# Altium footprint library Texas Instruments.PcbLib: 78 footprints (part 2 of 5)
Each footprint in its own frame and in the unit in brackets; x right, y up, seen from the top. Pads: shape width x height; smd on the part's side, far side on the other; paste and mask are expansions set on the pad; w line width, h text height; cw(c..) or ccw(c..) is an arc to the next point about the centre after c.
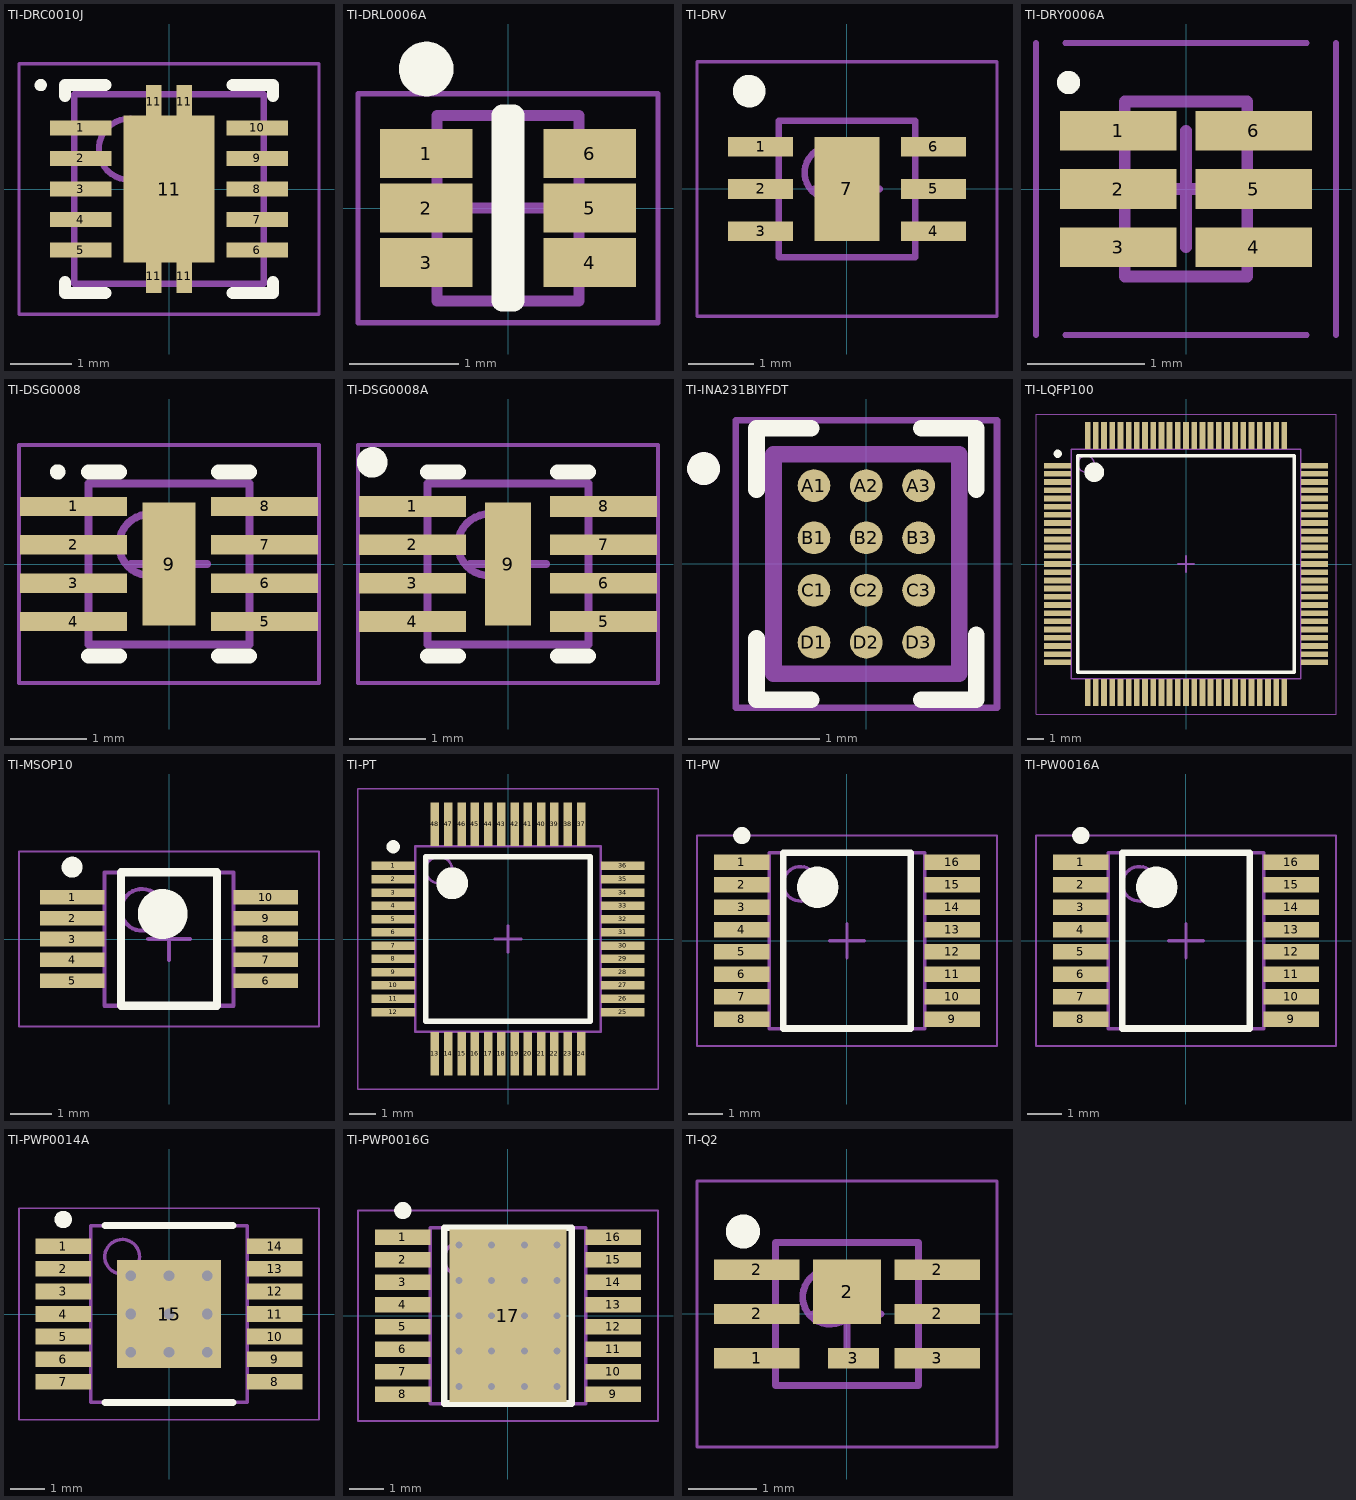
[diagram p1: the footprints below, top view; thin cyan lines are the x and y axes]

## TI-DRC0010J [mm] "SON, 10-Leads, Body 3.00x3.00mm, Pitch 0.50mm, Thermal Pad 2.40x1.49mm, IPC Low Density"
height 1
pads (15):
  rect 1x0.25 smd: 1(-1.445,1) 2(-1.445,0.5) 3(-1.445,0) 4(-1.445,-0.5) 5(-1.445,-1) 6(1.445,-1) 7(1.445,-0.5) 8(1.445,0) 9(1.445,0.5) 10(1.445,1)
  rect 0.25x0.55 smd: 11(-0.25,-1.425) 11(-0.25,1.425) 11(0.25,-1.425) 11(0.25,1.425)
  rect 1.49x2.4 smd: 11(0,0)
Top Overlay:
  circle w0.1: c-2.1,1.7 r0.05
  lines w0.2: -1.7,-1.525 -1.7,-1.7 -1.045,-1.7 ; -1.7,1.525 -1.7,1.7 -1.045,1.7 ; 1.045,-1.7 1.7,-1.7 1.7,-1.525 ; 1.045,1.7 1.7,1.7 1.7,1.525
Top Assembly:
  circle w0.1: c-0.65,0.65 r0.5
  lines w0.1: -1.55,-1.55 1.55,-1.55 1.55,1.55 -1.55,1.55 -1.55,-1.55
Top Courtyard:
  lines w0.05: -2.455,-2.05 2.455,-2.05 2.455,2.05 -2.455,2.05 -2.455,-2.05
  lines w0.1: -0.5,0 0.5,0 ; 0,-0.5 0,0.5
3D body "TI-DRC0010J.step": height 1, standoff 0, extent -1.551,-1.55 1.551,1.55

## TI-DRL0006A [mm] "SOTFL, 6-Leads, Body 1.60x1.60mm, Pitch 0.50mm, IPC Low Density"
height 0.6
pads (6):
  rect 0.85x0.45 smd: 1(-0.75,0.5) 2(-0.75,0) 3(-0.75,-0.5) 4(0.75,-0.5) 5(0.75,0) 6(0.75,0.5)
Top Overlay:
  circle w0.25: c-0.75,1.275 r0.125
  lines w0.2: -0.05,-0.85 0.05,-0.85 0.05,0.85 -0.05,0.85 -0.05,-0.85
Top Assembly:
  lines w0.1: -0.65,-0.85 -0.65,0.85 0.65,0.85 0.65,-0.85 -0.65,-0.85
Top Courtyard:
  lines w0.05: -1.375,-1.05 -1.375,1.05 1.375,1.05 1.375,-1.05 -1.375,-1.05
  lines w0.1: -0.5,0 0.5,0 ; 0,-0.5 0,0.5
3D body "TI-DRL0006A.step": height 0.6, standoff 0, extent -0.8,-0.848 0.8,0.848

## TI-DRV [mm] "QFN, 6-Leads, Body 2.00x2.00mm, Pitch 0.65mm, Thermal Pad 1.00x1.60mm, IPC Low Density"
height 0.8
pads (7):
  rect 1x0.3 smd: 1(-1.325,0.65) 2(-1.325,0) 3(-1.325,-0.65) 4(1.325,-0.65) 5(1.325,0) 6(1.325,0.65)
  rect 1x1.6 smd: 7(0,0)
Top Overlay:
  circle w0.25: c-1.5,1.5 r0.125
Assembly Top:
  circle w0.1: c-0.25,0.25 r0.4
  lines w0.1: -1.05,-1.05 -1.05,1.05 1.05,1.05 1.05,-1.05 -1.05,-1.05
Courtyard Top:
  lines w0.05: -2.3,-1.95 -2.3,1.95 2.3,1.95 2.3,-1.95 -2.3,-1.95
  lines w0.1: -0.5,0 0.5,0 ; 0,-0.5 0,0.5
3D body "TI-DRV.step": height 0.8, standoff 0, extent -1.051,-1.05 1.051,1.05

## TI-DRY0006A [mm] "PSON, 6-Leads, Body 1.45x1.00mm, Pitch 0.50mm, IPC Low Density"
height 0.6
pads (6):
  rect 1x0.34 smd: 1(-0.58,0.5) 2(-0.58,0) 3(-0.58,-0.5) 4(0.58,-0.5) 5(0.58,0) 6(0.58,0.5)
Top Overlay:
  circle w0.1: c-1.007,0.912 r0.05
Top Assembly:
  lines w0.1: -0.525,-0.75 -0.525,0.75 0.525,0.75 0.525,-0.75 -0.525,-0.75
Top Courtyard:
  lines w0.05: -1.285,-1.25 -1.285,1.25 ; -1.035,-1.25 1.035,-1.25 ; -1.035,1.25 1.035,1.25 ; 1.285,-1.25 1.285,1.25
  lines w0.1: -0.5,0 0.5,0 ; 0,-0.5 0,0.5
3D body "TI-DRY0006A.step": height 0.6, standoff 0, extent -0.526,-0.75 0.526,0.75

## TI-DSG0008 [mm] "SON, 8-Leads, Body 2.00x2.00mm, Pitch 0.50mm, Thermal Pad 1.60x0.69mm, IPC Low Density"
height 0.8
pads (9):
  rect 1.4x0.25 smd: 1(-1.245,0.75) 2(-1.245,0.25) 3(-1.245,-0.25) 4(-1.245,-0.75) 5(1.245,-0.75) 6(1.245,-0.25) 7(1.245,0.25) 8(1.245,0.75)
  rect 0.69x1.6 smd: 9(0,0)
Top Overlay:
  circle w0.1: c-1.45,1.2 r0.05
  lines w0.2: -1.05,-1.2 -0.645,-1.2 ; -1.05,1.2 -0.645,1.2 ; 0.645,-1.2 1.05,-1.2 ; 0.645,1.2 1.05,1.2
Assembly Top:
  circle w0.1: c-0.25,0.25 r0.4
  lines w0.1: -1.05,-1.05 -1.05,1.05 1.05,1.05 1.05,-1.05 -1.05,-1.05
Courtyard Top:
  lines w0.05: -1.955,-1.55 -1.955,1.55 1.955,1.55 1.955,-1.55 -1.955,-1.55
  lines w0.1: -0.5,0 0.5,0 ; 0,-0.5 0,0.5
3D body "TI-DSG0008.step": height 0.8, standoff 0, extent -1.051,-1.05 1.051,1.05

## TI-DSG0008A [mm] "SON, 8-Leads, Body 2.00x2.00mm, Pitch 0.50mm, Thermal Pad 1.60x0.69mm, IPC Low Density"
height 0.8
pads (9):
  rect 1.4x0.27 smd mask+0.051: 1(-1.245,0.75) 2(-1.245,0.25) 3(-1.245,-0.25) 4(-1.245,-0.75) 5(1.245,-0.75) 6(1.245,-0.25) 7(1.245,0.25) 8(1.245,0.75)
  rect 0.6x1.6 smd mask+0.051: 9(0,0)
Top Overlay:
  circle w0.2: c-1.769,1.325 r0.1
  lines w0.2: -1.05,-1.2 -0.645,-1.2 ; -1.05,1.2 -0.645,1.2 ; 0.645,-1.2 1.05,-1.2 ; 0.645,1.2 1.05,1.2
Assembly Top:
  circle w0.1: c-0.25,0.25 r0.4
  lines w0.1: -1.05,-1.05 1.05,-1.05 1.05,1.05 -1.05,1.05 -1.05,-1.05
Courtyard Top:
  lines w0.05: -1.955,-1.55 1.955,-1.55 1.955,1.55 -1.955,1.55 -1.955,-1.55
  lines w0.1: -0.5,0 0.5,0 ; 0,-0.5 0,0.5
3D body "TI-DSG0008.step": height 0.8, standoff 0, extent -1.051,-1.05 1.051,1.05

## TI-INA231BIYFDT [mm]
pads (12):
  round 0.25 smd: A1(-0.4,0.6) A2(0,0.6) A3(0.4,0.6) B1(-0.4,0.2) B2(0,0.2) B3(0.4,0.2) C1(-0.4,-0.2) C2(0,-0.2) C3(0.4,-0.2) D1(-0.4,-0.6) D2(0,-0.6) D3(0.4,-0.6)
Top Overlay:
  circle w0.15: c-1.245,0.73 r0.05
  lines w0.127: -0.84,-0.57 -0.84,-1.04 -0.42,-1.04 ; -0.84,0.57 -0.84,1.04 -0.42,1.04 ; 0.42,-1.04 0.84,-1.04 0.84,-0.54 ; 0.42,1.04 0.84,1.04 0.84,0.57
Mechanical 13:
  circle w0.15: c-1.245,0.73 r0.05
  lines w0.127: -0.71,-0.84 -0.71,0.84 0.71,0.84 0.71,-0.84 -0.71,-0.84
Mechanical 15:
  lines w0.05: -1,-1.1 -1,1.1 1,1.1 1,-1.1 -1,-1.1

## TI-KTT [mm]

## TI-LQFP100 [mm] "TSQFP, 100-Leads, Body 14.00x14.00mm, Pitch 0.50mm, IPC Low Density"
height 1.6
pads (100):
  rect 1.65x0.35 smd: 1(-7.825,6) 2(-7.825,5.5) 3(-7.825,5) 4(-7.825,4.5) 5(-7.825,4) 6(-7.825,3.5) 7(-7.825,3) 8(-7.825,2.5) 9(-7.825,2) 10(-7.825,1.5) 11(-7.825,1) 12(-7.825,0.5) 13(-7.825,0) 14(-7.825,-0.5) 15(-7.825,-1) 16(-7.825,-1.5) 17(-7.825,-2) 18(-7.825,-2.5) 19(-7.825,-3) 20(-7.825,-3.5) 21(-7.825,-4) 22(-7.825,-4.5) 23(-7.825,-5) 24(-7.825,-5.5) 25(-7.825,-6) 51(7.825,-6) 52(7.825,-5.5) 53(7.825,-5) 54(7.825,-4.5) 55(7.825,-4) 56(7.825,-3.5) 57(7.825,-3) 58(7.825,-2.5) 59(7.825,-2) 60(7.825,-1.5) 61(7.825,-1) 62(7.825,-0.5) 63(7.825,0) 64(7.825,0.5) 65(7.825,1) 66(7.825,1.5) 67(7.825,2) 68(7.825,2.5) 69(7.825,3) 70(7.825,3.5) 71(7.825,4) 72(7.825,4.5) 73(7.825,5) 74(7.825,5.5) 75(7.825,6)
  rect 0.35x1.65 smd: 26(-6,-7.825) 27(-5.5,-7.825) 28(-5,-7.825) 29(-4.5,-7.825) 30(-4,-7.825) 31(-3.5,-7.825) 32(-3,-7.825) 33(-2.5,-7.825) 34(-2,-7.825) 35(-1.5,-7.825) 36(-1,-7.825) 37(-0.5,-7.825) 38(0,-7.825) 39(0.5,-7.825) 40(1,-7.825) 41(1.5,-7.825) 42(2,-7.825) 43(2.5,-7.825) 44(3,-7.825) 45(3.5,-7.825) 46(4,-7.825) 47(4.5,-7.825) 48(5,-7.825) 49(5.5,-7.825) 50(6,-7.825) 76(6,7.825) 77(5.5,7.825) 78(5,7.825) 79(4.5,7.825) 80(4,7.825) 81(3.5,7.825) 82(3,7.825) 83(2.5,7.825) 84(2,7.825) 85(1.5,7.825) 86(1,7.825) 87(0.5,7.825) 88(0,7.825) 89(-0.5,7.825) 90(-1,7.825) 91(-1.5,7.825) 92(-2,7.825) 93(-2.5,7.825) 94(-3,7.825) 95(-3.5,7.825) 96(-4,7.825) 97(-4.5,7.825) 98(-5,7.825) 99(-5.5,7.825) 100(-6,7.825)
Top Overlay:
  circle w0.25: c-7.825,6.725 r0.125
  circle w0.6: c-5.6,5.6 r0.3
  lines w0.2: -6.6,-6.6 -6.6,6.6 6.6,6.6 6.6,-6.6 -6.6,-6.6
Assembly Top:
  circle w0.1: c-6.1,6.1 r0.5
  lines w0.1: -7,-7 7,-7 7,7 -7,7 -7,-7
Courtyard Top:
  lines w0.05: -9.15,-9.15 9.15,-9.15 9.15,9.15 -9.15,9.15 -9.15,-9.15
  lines w0.1: -0.5,0 0.5,0 ; 0,-0.5 0,0.5
3D body: height 1.6, standoff 0.05, extent -7,-7 7,7

## TI-MSOP10 [mm] "TSSOP, 10-Leads, Body 3.05x3.00mm, Pitch 0.50mm, IPC Low Density"
height 1.1
pads (10):
  rect 1.55x0.35 smd: 1(-2.325,1) 2(-2.325,0.5) 3(-2.325,0) 4(-2.325,-0.5) 5(-2.325,-1) 6(2.325,-1) 7(2.325,-0.5) 8(2.325,0) 9(2.325,0.5) 10(2.325,1)
Top Overlay:
  circle w0.25: c-2.325,1.725 r0.125
  circle w0.6: c-0.15,0.6 r0.3
  lines w0.2: -1.15,-1.6 -1.15,1.6 1.15,1.6 1.15,-1.6 -1.15,-1.6
Assembly Top:
  circle w0.1: c-0.65,0.7 r0.5
  lines w0.1: -1.55,-1.6 1.55,-1.6 1.55,1.6 -1.55,1.6 -1.55,-1.6
Courtyard Top:
  lines w0.05: -3.6,-2.1 3.6,-2.1 3.6,2.1 -3.6,2.1 -3.6,-2.1
  lines w0.1: -0.5,0 0.5,0 ; 0,-0.5 0,0.5
3D body "TI-MSOP10.step": height 1.1, standoff 0, extent -2.45,-1.6 2.45,1.6

## TI-PT [mm] "TSQFP, 48-Leads, Body 7.00x7.00mm, Pitch 0.50mm, IPC Low Density"
height 1.6
pads (48):
  rect 1.65x0.32 smd: 1(-4.325,2.75) 2(-4.325,2.25) 3(-4.325,1.75) 4(-4.325,1.25) 5(-4.325,0.75) 6(-4.325,0.25) 7(-4.325,-0.25) 8(-4.325,-0.75) 9(-4.325,-1.25) 10(-4.325,-1.75) 11(-4.325,-2.25) 12(-4.325,-2.75) 25(4.325,-2.75) 26(4.325,-2.25) 27(4.325,-1.75) 28(4.325,-1.25) 29(4.325,-0.75) 30(4.325,-0.25) 31(4.325,0.25) 32(4.325,0.75) 33(4.325,1.25) 34(4.325,1.75) 35(4.325,2.25) 36(4.325,2.75)
  rect 0.32x1.65 smd: 13(-2.75,-4.325) 14(-2.25,-4.325) 15(-1.75,-4.325) 16(-1.25,-4.325) 17(-0.75,-4.325) 18(-0.25,-4.325) 19(0.25,-4.325) 20(0.75,-4.325) 21(1.25,-4.325) 22(1.75,-4.325) 23(2.25,-4.325) 24(2.75,-4.325) 37(2.75,4.325) 38(2.25,4.325) 39(1.75,4.325) 40(1.25,4.325) 41(0.75,4.325) 42(0.25,4.325) 43(-0.25,4.325) 44(-0.75,4.325) 45(-1.25,4.325) 46(-1.75,4.325) 47(-2.25,4.325) 48(-2.75,4.325)
Top Overlay:
  circle w0.25: c-4.325,3.475 r0.125
  circle w0.6: c-2.1,2.1 r0.3
  lines w0.2: -3.1,-3.1 -3.1,3.1 3.1,3.1 3.1,-3.1 -3.1,-3.1
Assembly Top:
  circle w0.1: c-2.6,2.6 r0.5
  lines w0.1: -3.5,-3.5 -3.5,3.5 3.5,3.5 3.5,-3.5 -3.5,-3.5
Courtyard Top:
  lines w0.05: -5.65,-5.65 -5.65,5.65 5.65,5.65 5.65,-5.65 -5.65,-5.65
  lines w0.1: -0.5,0 0.5,0 ; 0,-0.5 0,0.5
3D body "TI-PT.step": height 1.6, standoff 0, extent -4.5,-4.5 4.5,4.5

## TI-PW [mm] "TSOP, 16-Leads, Body 5.00x4.40mm, Pitch 0.65mm, IPC Low Density"
height 1.2
pads (16):
  rect 1.6x0.45 smd: 1(-3.05,2.275) 2(-3.05,1.625) 3(-3.05,0.975) 4(-3.05,0.325) 5(-3.05,-0.325) 6(-3.05,-0.975) 7(-3.05,-1.625) 8(-3.05,-2.275) 9(3.05,-2.275) 10(3.05,-1.625) 11(3.05,-0.975) 12(3.05,-0.325) 13(3.05,0.325) 14(3.05,0.975) 15(3.05,1.625) 16(3.05,2.275)
Top Overlay:
  circle w0.25: c-3.05,3.05 r0.125
  circle w0.6: c-0.85,1.55 r0.3
  lines w0.2: -1.85,-2.55 -1.85,2.55 1.85,2.55 1.85,-2.55 -1.85,-2.55
Assembly Top:
  circle w0.1: c-1.35,1.65 r0.5
  lines w0.1: -2.25,-2.55 -2.25,2.55 2.25,2.55 2.25,-2.55 -2.25,-2.55
Courtyard Top:
  lines w0.05: -4.35,-3.05 -4.35,3.05 4.35,3.05 4.35,-3.05 -4.35,-3.05
  lines w0.1: -0.5,0 0.5,0 ; 0,-0.5 0,0.5
3D body "TI-PW.step": height 1.2, standoff 0, extent -3.2,-2.55 3.2,2.55

## TI-PW0016A [mm] "TSOP, 16-Leads, Body 5.00x4.40mm, Pitch 0.65mm, IPC Low Density"
height 1.2
pads (16):
  rect 1.6x0.45 smd: 1(-3.05,2.275) 2(-3.05,1.625) 3(-3.05,0.975) 4(-3.05,0.325) 5(-3.05,-0.325) 6(-3.05,-0.975) 7(-3.05,-1.625) 8(-3.05,-2.275) 9(3.05,-2.275) 10(3.05,-1.625) 11(3.05,-0.975) 12(3.05,-0.325) 13(3.05,0.325) 14(3.05,0.975) 15(3.05,1.625) 16(3.05,2.275)
Top Overlay:
  circle w0.25: c-3.05,3.05 r0.125
  circle w0.6: c-0.85,1.55 r0.3
  lines w0.2: -1.85,-2.55 -1.85,2.55 1.85,2.55 1.85,-2.55 -1.85,-2.55
Top Assembly:
  circle w0.1: c-1.35,1.65 r0.5
  lines w0.1: -2.25,-2.55 -2.25,2.55 2.25,2.55 2.25,-2.55 -2.25,-2.55
Top Courtyard:
  lines w0.05: -4.35,-3.05 -4.35,3.05 4.35,3.05 4.35,-3.05 -4.35,-3.05
  lines w0.1: -0.5,0 0.5,0 ; 0,-0.5 0,0.5
3D body "TI-PW0016A.step": height 1.2, standoff 0, extent -3.2,-2.55 3.2,2.55

## TI-PWP0014A [mm] "TSOP, 14-Leads, Body 5.00x4.40mm, Pitch 0.65mm, Thermal Pad 3.10x3.00mm, IPC Low Density"
height 1.1
pads (15):
  rect 1.6x0.45 smd: 1(-3.05,1.95) 2(-3.05,1.3) 3(-3.05,0.65) 4(-3.05,0) 5(-3.05,-0.65) 6(-3.05,-1.3) 7(-3.05,-1.95) 8(3.05,-1.95) 9(3.05,-1.3) 10(3.05,-0.65) 11(3.05,0) 12(3.05,0.65) 13(3.05,1.3) 14(3.05,1.95)
  rect 3x3.1 smd: 15(0,0)
via -1.1,1.1 diameter 0.655 hole 0.305
via 0,1.1 diameter 0.655 hole 0.305
via 1.1,1.1 diameter 0.655 hole 0.305
via -1.1,0 diameter 0.655 hole 0.305
via 0,0 diameter 0.655 hole 0.305
via 1.1,0 diameter 0.655 hole 0.305
via -1.1,-1.1 diameter 0.655 hole 0.305
via 0,-1.1 diameter 0.655 hole 0.305
via 1.1,-1.1 diameter 0.655 hole 0.305
Top Overlay:
  circle w0.25: c-3.05,2.725 r0.125
  lines w0.2: -1.85,-2.55 1.85,-2.55 ; -1.85,2.55 1.85,2.55
Assembly Top:
  circle w0.1: c-1.35,1.65 r0.5
  lines w0.1: -2.25,-2.55 2.25,-2.55 2.25,2.55 -2.25,2.55 -2.25,-2.55
Courtyard Top:
  lines w0.05: -4.325,-3.05 4.325,-3.05 4.325,3.05 -4.325,3.05 -4.325,-3.05
  lines w0.1: -0.5,0 0.5,0 ; 0,-0.5 0,0.5
3D body "TI-PWP0014A.step": height 1.1, standoff 0, extent -3.2,-2.55 3.2,2.55

## TI-PWP0016G [mm] "TSOP, 16-Leads, Body 5.00x4.40mm, Pitch 0.65mm, Thermal Pad 3.29x2.41mm, IPC Low Density"
height 1.2
pads (17):
  rect 1.6x0.45 smd: 1(-3.05,2.275) 2(-3.05,1.625) 3(-3.05,0.975) 4(-3.05,0.325) 5(-3.05,-0.325) 6(-3.05,-0.975) 7(-3.05,-1.625) 8(-3.05,-2.275) 9(3.05,-2.275) 10(3.05,-1.625) 11(3.05,-0.975) 12(3.05,-0.325) 13(3.05,0.325) 14(3.05,0.975) 15(3.05,1.625) 16(3.05,2.275)
  rect 3.4x5 smd paste-1 mask-1: 17(0,0)
via -0.475,1.025 diameter 0.5 hole 0.2
via 0.475,1.025 diameter 0.5 hole 0.2
via -0.475,0 diameter 0.5 hole 0.2
via 0.475,0 diameter 0.5 hole 0.2
via -0.475,-1.025 diameter 0.5 hole 0.2
via 0.475,-1.025 diameter 0.5 hole 0.2
via -1.425,-1.025 diameter 0.5 hole 0.2
via -1.425,0 diameter 0.5 hole 0.2
via -1.425,1.025 diameter 0.5 hole 0.2
via 1.425,1.025 diameter 0.5 hole 0.2
via 1.425,0 diameter 0.5 hole 0.2
via 1.425,-1.025 diameter 0.5 hole 0.2
via 1.425,-2.05 diameter 0.5 hole 0.2
via -1.425,-2.05 diameter 0.5 hole 0.2
via 0.475,-2.05 diameter 0.5 hole 0.2
via -0.475,-2.05 diameter 0.5 hole 0.2
via -1.425,2.05 diameter 0.5 hole 0.2
via 1.425,2.05 diameter 0.5 hole 0.2
via -0.475,2.05 diameter 0.5 hole 0.2
via 0.475,2.05 diameter 0.5 hole 0.2
Top Overlay:
  circle w0.25: c-3.05,3.05 r0.125
  lines w0.2: -1.85,-2.55 -1.85,2.55 1.85,2.55 1.85,-2.55 -1.85,-2.55
Top Paste:
  rectangle: -1.205,-1.645 1.205,1.645
Top Solder:
  rectangle: -1.205,-1.645 1.205,1.645
Assembly Top:
  circle w0.1: c-1.35,1.65 r0.5
  lines w0.1: -2.25,-2.55 2.25,-2.55 2.25,2.55 -2.25,2.55 -2.25,-2.55
Courtyard Top:
  lines w0.05: -4.35,-3.05 4.35,-3.05 4.35,3.05 -4.35,3.05 -4.35,-3.05
  lines w0.1: -0.5,0 0.5,0 ; 0,-0.5 0,0.5
3D body "TI-PWP0016G.step": height 1.2, standoff 0, extent -3.2,-2.55 3.2,2.55

## TI-Q2 [mm] "QFN, 6-Leads, Body 2.00x2.00mm, Pitch 0.65mm, Thermal Pad 1.00x0.95mm, IPC Low Density"
height 0.8
pads (8):
  rect 1.25x0.3 smd: 1(-1.325,-0.65) 2(-1.325,0) 2(-1.325,0.65) 2(1.325,0) 2(1.325,0.65) 3(1.325,-0.65)
  rect 1x0.95 smd: 2(0,0.325)
  rect 0.75x0.3 smd: 3(0.095,-0.65)
Top Overlay:
  circle w0.25: c-1.525,1.21 r0.125
Assembly Top:
  circle w0.1: c-0.25,0.25 r0.4
  lines w0.1: -1.05,-1.05 -1.05,1.05 1.05,1.05 1.05,-1.05 -1.05,-1.05
Courtyard Top:
  lines w0.05: -2.2,-1.95 -2.2,1.95 2.2,1.95 2.2,-1.95 -2.2,-1.95
  lines w0.1: -0.5,0 0.5,0 ; 0,-0.5 0,0.5
3D body "TI-Q2.step": height 0.8, standoff 0, extent -1.051,-1.05 1.051,1.05